# Altium footprint library Potentiometer SMD.PcbLib: 1 footprints
Each footprint in its own frame and in the unit in brackets; x right, y up, seen from the top. Pads: shape width x height; smd on the part's side, far side on the other; paste and mask are expansions set on the pad; w line width, h text height; cw(c..) or ccw(c..) is an arc to the next point about the centre after c.
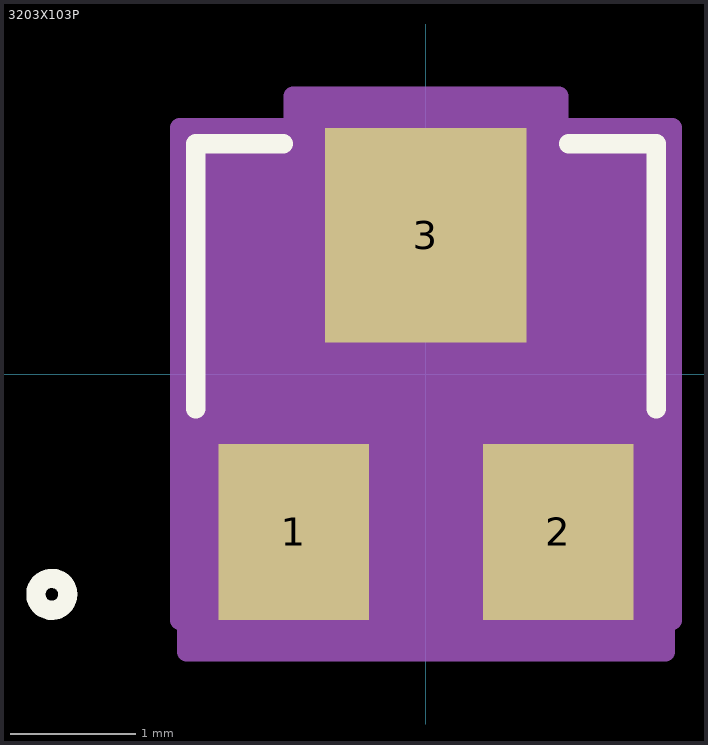
[diagram p0: the footprint, top view; thin cyan lines are the x and y axes]

## 3203X103P [mil]
pads (3):
  rect 47x55 smd paste+0 mask+0: 1(-41.34,-49.4) 2(41.34,-49.4)
  rect 63x67 smd paste+0 mask+0: 3(0,43.4)
Top Overlay:
  circle w6: c-117,-68.9 r5
  lines w6: -72,-10.93 -72,72 -44.6,72 ; 44.6,72 72,72 72,-10.93
Mechanical 13:
  circle w0: c-57,-57 r5
  lines w1: -67,-67 -67,67 67,67 67,-67 -67,-67 ; -64.84,-68.9 -17.84,-68.9 -17.84,-67 -64.84,-67 -64.84,-68.9 ; -31.5,67 -31.5,68.9 31.5,68.9 31.5,67 -31.5,67 ; 17.84,-68.9 64.84,-68.9 64.84,-67 17.84,-67 17.84,-68.9
Mechanical 15:
  region: 67,-67 -67,-67 -67,67 67,67
  region: -77,-77 -77,77 -41.5,77 -41.5,86.9 41.5,86.9 41.5,77 77,77 77,-77 74.84,-77 74.84,-86.9 -74.84,-86.9 -74.84,-77
  lines w6: -77,-77 -74.84,-77 -74.84,-86.9 74.84,-86.9 74.84,-77 77,-77 77,77 41.5,77 41.5,86.9 -41.5,86.9 -41.5,77 -77,77 -77,-77
3D body "3203X502P_TEC.step": height 81.1, standoff 0, extent -67.01,-68.9 67.01,68.9